# Altium footprint library BERGSTIK-6PIN-2R-2.54MM.PcbLib: 1 footprints
Each footprint in its own frame and in the unit in brackets; x right, y up, seen from the top. Pads: shape width x height; smd on the part's side, far side on the other; paste and mask are expansions set on the pad; w line width, h text height; cw(c..) or ccw(c..) is an arc to the next point about the centre after c.
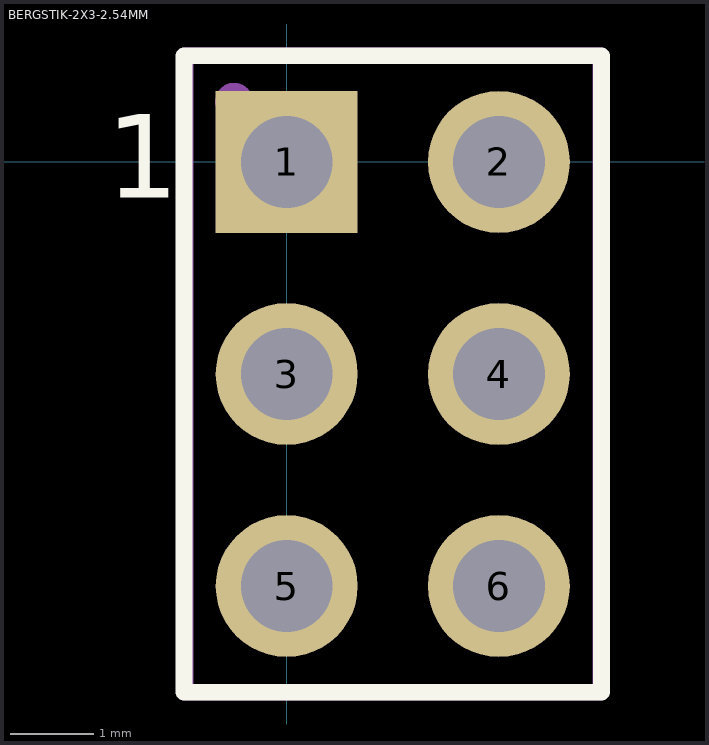
[diagram p0: the footprint, top view; thin cyan lines are the x and y axes]

## BERGSTIK-2X3-2.54MM [mm]
pads (6):
  rect 1.7x1.7 hole 1.1: 1(0,0)
  round 1.7 hole 1.1: 2(2.54,0) 3(0,-2.54) 4(2.54,-2.54) 5(0,-5.08) 6(2.54,-5.08)
Top Overlay:
  lines w0.2: -1.23,-6.35 -1.23,1.27 3.77,1.27 3.77,-6.35 -1.23,-6.35
  text "1" at -2.159,-0.432 h1
Mechanical 29:
  circle w0.254: c-0.63,0.72 r0.1
  lines w0.2: -1.219,-6.35 -1.219,1.27 3.759,1.27 3.759,-6.35 -1.219,-6.35
  text ".Designator" at 1.346,-4.801 h0.76
3D body "67997-106HLF.stp": height 8.41, standoff -3.02, extent -1.145,-6.35 3.685,1.27